# EAGLE library part ATTINY24 (library karlnet-parts)
ATtiny24/44/84. pdip and qfn packages, but the QFN package does _not_ have the bottom pad connected to ground. (doing so would make a 15 pad package, and you couldn't have PDIP and QFN in the same part)
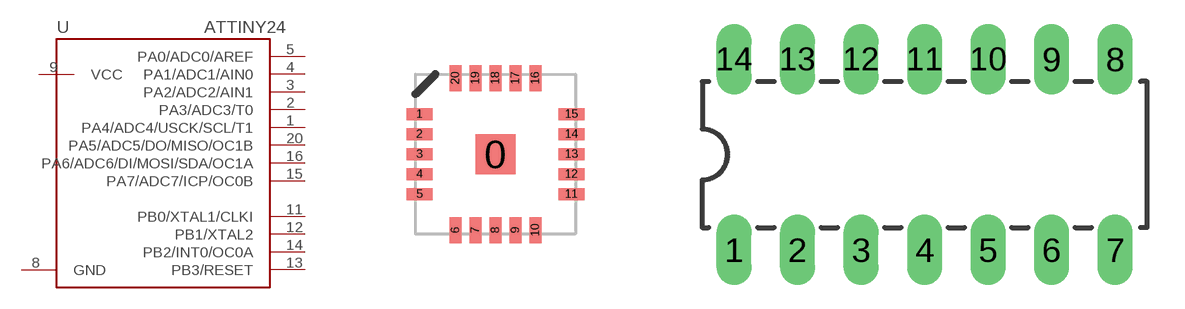
[diagram p0: symbol with the pads of QFN20; footprints QFN20, DIL14]

Designator prefix -

## ATTINY24QFN  [QFN20]
1  PA4/ADC4/USCK/SCL/T1
2  PA3/ADC3/T0
3  PA2/ADC2/AIN1
4  PA1/ADC1/AIN0
5  PA0/ADC0/AREF
8  GND
9  VCC
11  PB0/XTAL1/CLKI
12  PB1/XTAL2
13  PB3/RESET
14  PB2/INT0/OC0A
15  PA7/ADC7/ICP/OC0B
16  PA6/ADC6/DI/MOSI/SDA/OC1A
20  PA5/ADC5/DO/MISO/OC1B

## ATTINY24PDIP  [DIL14]
1  VCC
2  PB0/XTAL1/CLKI
3  PB1/XTAL2
4  PB3/RESET
5  PB2/INT0/OC0A
6  PA7/ADC7/ICP/OC0B
7  PA6/ADC6/DI/MOSI/SDA/OC1A
8  PA5/ADC5/DO/MISO/OC1B
9  PA4/ADC4/USCK/SCL/T1
10  PA3/ADC3/T0
11  PA2/ADC2/AIN1
12  PA1/ADC1/AIN0
13  PA0/ADC0/AREF
14  GND

## Footprint QFN20 (pad centres in mm)
smd 1 x 1: 0 0,0
smd 0.65 x 0.3: 1 -1.9,1; 2 -1.9,0.5; 3 -1.9,0; 4 -1.9,-0.5; 5 -1.9,-1; 11 1.9,-1; 12 1.9,-0.5; 13 1.9,0; 14 1.9,0.5; 15 1.9,1
smd 0.3 x 0.65: 6 -1,-1.9; 7 -0.5,-1.9; 8 0,-1.9; 9 0.5,-1.9; 10 1,-1.9; 16 1,1.9; 17 0.5,1.9; 18 0,1.9; 19 -0.5,1.9; 20 -1,1.9

## Footprint DIL14 (pad centres in mm)
drill 0.9 long: 1 -8.89,-3.81; 2 -6.35,-3.81; 3 -3.81,-3.81; 4 -1.27,-3.81; 5 1.27,-3.81; 6 3.81,-3.81; 7 6.35,-3.81; 8 6.35,3.81; 9 3.81,3.81; 10 1.27,3.81; 11 -1.27,3.81; 12 -3.81,3.81; 13 -6.35,3.81; 14 -8.89,3.81